# Altium footprint library ICs.PcbLib: 9 footprints
Each footprint in its own frame and in the unit in brackets; x right, y up, seen from the top. Pads: shape width x height; smd on the part's side, far side on the other; paste and mask are expansions set on the pad; w line width, h text height; cw(c..) or ccw(c..) is an arc to the next point about the centre after c.
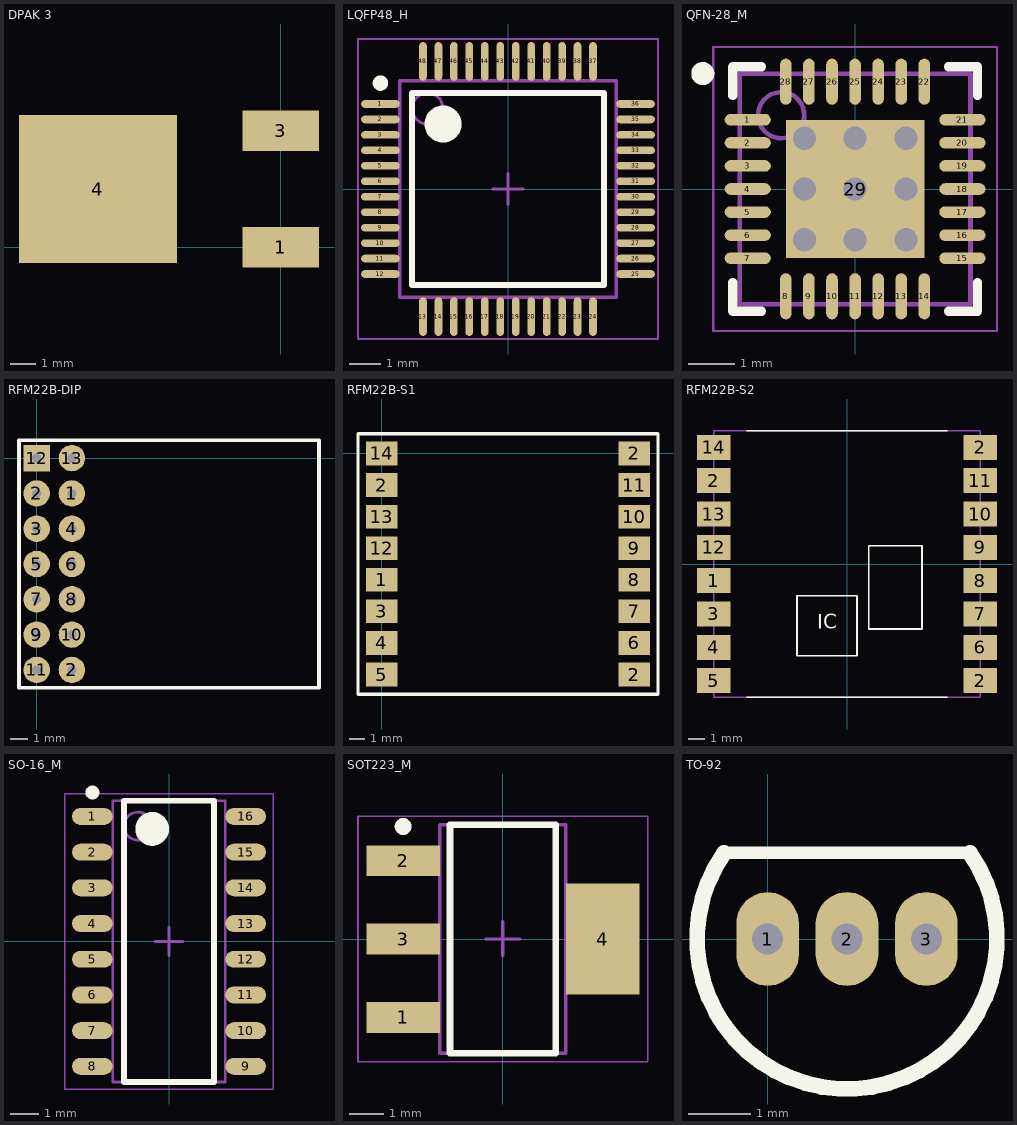
[diagram p0: the footprints below, top view; thin cyan lines are the x and y axes]

## DPAK 3 [mm]
height 2.38
pads (3):
  rect 3x1.6 smd: 1(0,0) 3(0,4.57)
  rect 6.2x5.8 smd: 4(-7.18,2.285)

## LQFP48_H [mm] "High dencity"
height 1.6
pads (48):
  oval 1.25x0.25 smd: 1(-4.125,2.75) 2(-4.125,2.25) 3(-4.125,1.75) 4(-4.125,1.25) 5(-4.125,0.75) 6(-4.125,0.25) 7(-4.125,-0.25) 8(-4.125,-0.75) 9(-4.125,-1.25) 10(-4.125,-1.75) 11(-4.125,-2.25) 12(-4.125,-2.75) 25(4.125,-2.75) 26(4.125,-2.25) 27(4.125,-1.75) 28(4.125,-1.25) 29(4.125,-0.75) 30(4.125,-0.25) 31(4.125,0.25) 32(4.125,0.75) 33(4.125,1.25) 34(4.125,1.75) 35(4.125,2.25) 36(4.125,2.75)
  oval 0.25x1.25 smd: 13(-2.75,-4.125) 14(-2.25,-4.125) 15(-1.75,-4.125) 16(-1.25,-4.125) 17(-0.75,-4.125) 18(-0.25,-4.125) 19(0.25,-4.125) 20(0.75,-4.125) 21(1.25,-4.125) 22(1.75,-4.125) 23(2.25,-4.125) 24(2.75,-4.125) 37(2.75,4.125) 38(2.25,4.125) 39(1.75,4.125) 40(1.25,4.125) 41(0.75,4.125) 42(0.25,4.125) 43(-0.25,4.125) 44(-0.75,4.125) 45(-1.25,4.125) 46(-1.75,4.125) 47(-2.25,4.125) 48(-2.75,4.125)
Top Overlay:
  circle w0.6: c-2.1,2.1 r0.3
  circle w0.25: c-4.125,3.425 r0.125
  lines w0.2: -3.1,-3.1 3.1,-3.1 3.1,3.1 -3.1,3.1 -3.1,-3.1
Mechanical 13:
  circle w0.1: c-2.6,2.6 r0.5
  lines w0.1: -3.5,-3.5 3.5,-3.5 3.5,3.5 -3.5,3.5 -3.5,-3.5
Mechanical 15:
  lines w0.05: -4.85,-4.85 4.85,-4.85 4.85,4.85 -4.85,4.85 -4.85,-4.85
  lines w0.1: -0.5,0 0.5,0 ; 0,-0.5 0,0.5
3D body: height 1.6, standoff 0.05, extent -3.5,-3.5 3.5,3.5

## QFN-28_M [mm] "QFN, 28-Leads, Body 5,00x5,00mm, Pitch 0,50mm, Thermal Pad 3,25x3,25mm, IPC Medium Density"
height 1
pads (29):
  oval 1x0.25 smd: 1(-2.325,1.5) 2(-2.325,1) 3(-2.325,0.5) 4(-2.325,0) 5(-2.325,-0.5) 6(-2.325,-1) 7(-2.325,-1.5) 15(2.325,-1.5) 16(2.325,-1) 17(2.325,-0.5) 18(2.325,0) 19(2.325,0.5) 20(2.325,1) 21(2.325,1.5)
  oval 0.25x1 smd: 8(-1.5,-2.325) 9(-1,-2.325) 10(-0.5,-2.325) 11(0,-2.325) 12(0.5,-2.325) 13(1,-2.325) 14(1.5,-2.325) 22(1.5,2.325) 23(1,2.325) 24(0.5,2.325) 25(0,2.325) 26(-0.5,2.325) 27(-1,2.325) 28(-1.5,2.325)
  rect 3x3 smd: 29(0,0)
via -1.1,1.1 diameter 0.7 hole 0.5
via 0,1.1 diameter 0.7 hole 0.5
via 1.1,1.1 diameter 0.7 hole 0.5
via -1.1,0 diameter 0.7 hole 0.5
via 0,0 diameter 0.7 hole 0.5
via 1.1,0 diameter 0.7 hole 0.5
via -1.1,-1.1 diameter 0.7 hole 0.5
via 0,-1.1 diameter 0.7 hole 0.5
via 1.1,-1.1 diameter 0.7 hole 0.5
Top Overlay:
  circle w0.25: c-3.3,2.5 r0.125
  lines w0.2: -2.65,-2.025 -2.65,-2.65 -2.025,-2.65 ; -2.65,2.025 -2.65,2.65 -2.025,2.65 ; 2.025,-2.65 2.65,-2.65 2.65,-2.025 ; 2.025,2.65 2.65,2.65 2.65,2.025
Mechanical 13:
  circle w0.1: c-1.6,1.6 r0.5
  lines w0.1: -2.5,-2.5 -2.5,2.5 2.5,2.5 2.5,-2.5 -2.5,-2.5
Mechanical 15:
  lines w0.05: -3.075,-3.075 -3.075,3.075 3.075,3.075 3.075,-3.075 -3.075,-3.075
  lines w0.1: -0.5,0 0.5,0 ; 0,-0.5 0,0.5
3D body: height 1, standoff 0, extent -2.5,-2.5 2.5,2.5

## RFM22B-DIP [mm]
pads (14):
  round 1.5 hole 0.5: 1(2,-2) 2(0,-2) 2(2,-12) 3(0,-4) 4(2,-4) 5(0,-6) 6(2,-6) 7(0,-8) 8(2,-8) 9(0,-10) 10(2,-10) 11(0,-12) 13(2,0)
  rect 1.5x1.5 hole 0.5: 12(0,0)
Top Overlay:
  lines w0.2: -1,-13 -1,1 16,1 16,-13 -1,-13

## RFM22B-S1 [mm]
pads (16):
  rect 2x1.5 smd: 1(0,-8) 2(0,-2) 2(16,-14) 2(16,0) 3(0,-10) 4(0,-12) 5(0,-14) 6(16,-12) 7(16,-10) 8(16,-8) 9(16,-6) 10(16,-4) 11(16,-2) 12(0,-6) 13(0,-4) 14(0,0)
Top Overlay:
  lines w0.2: -1.5,-15.25 17.5,-15.25 17.5,1.25 -1.5,1.25 -1.5,-15.25

## RFM22B-S2 [mm]
pads (16):
  rect 2x1.5 smd: 1(-8,-1) 2(-8,5) 2(8,-7) 2(8,7) 3(-8,-3) 4(-8,-5) 5(-8,-7) 6(8,-5) 7(8,-3) 8(8,-1) 9(8,1) 10(8,3) 11(8,5) 12(-8,1) 13(-8,3) 14(-8,7)
Top Overlay:
  lines w0.1: -6,-8 6,-8 ; -6,8 6,8 ; -3,-5.5 0.6,-5.5 0.6,-1.9 -3,-1.9 -3,-5.5 ; 1.3,-3.9 4.5,-3.9 4.5,1.1 1.3,1.1 1.3,-3.9
  text "IC" at -1.8,-4.2 h1.5
Mechanical 13:
  lines w0.1: -8,-8 8,-8 8,8 -8,8 -8,-8

## SO-16_M [mm] "SOP, 16-Leads, Body 9,90x3,90mm, Pitch 1,27mm, IPC Medium Density"
height 1.75
pads (16):
  oval 1.45x0.6 smd: 1(-2.725,4.445) 2(-2.725,3.175) 3(-2.725,1.905) 4(-2.725,0.635) 5(-2.725,-0.635) 6(-2.725,-1.905) 7(-2.725,-3.175) 8(-2.725,-4.445) 9(2.725,-4.445) 10(2.725,-3.175) 11(2.725,-1.905) 12(2.725,-0.635) 13(2.725,0.635) 14(2.725,1.905) 15(2.725,3.175) 16(2.725,4.445)
Top Overlay:
  circle w0.25: c-2.725,5.295 r0.125
  circle w0.6: c-0.6,4 r0.3
  lines w0.2: -1.6,-5 -1.6,5 1.6,5 1.6,-5 -1.6,-5
Mechanical 13:
  circle w0.1: c-1.1,4.1 r0.5
  lines w0.1: -2,-5 -2,5 2,5 2,-5 -2,-5
Mechanical 15:
  lines w0.05: -3.7,-5.25 -3.7,5.25 3.7,5.25 3.7,-5.25 -3.7,-5.25
  lines w0.1: -0.5,0 0.5,0 ; 0,-0.5 0,0.5
3D body: height 2, standoff 0, extent -3.082,-5.04 3.082,5.04

## SOT223_M [mm] "SOT223, 4-Leads, Body 6,50x7,00mm (avg), Pitch 2,30mm, IPC Medium Density"
height 1.8
pads (4):
  rect 2.15x0.9 smd: 1(-2.925,-2.3) 2(-2.925,2.3) 3(-2.925,0)
  rect 2.15x3.25 smd: 4(2.925,0)
Top Overlay:
  circle w0.25: c-2.925,3.3 r0.125
  lines w0.2: -1.55,-3.35 1.55,-3.35 1.55,3.35 -1.55,3.35 -1.55,-3.35
Mechanical 13:
  lines w0.1: -1.85,-3.35 1.85,-3.35 1.85,3.35 -1.85,3.35 -1.85,-3.35
Mechanical 15:
  lines w0.05: -4.25,-3.6 4.25,-3.6 4.25,3.6 -4.25,3.6 -4.25,-3.6
  lines w0.1: -0.5,0 0.5,0 ; 0,-0.5 0,0.5
3D body: height 1.8, standoff 0.02, extent -1.85,-3.35 1.85,3.35

## TO-92 [mm]
pads (3):
  oval 1x1.5 hole 0.5: 1(0,0) 2(1.27,0) 3(2.54,0)
Top Overlay:
  lines w0.2: -0.696,1.377 3.236,1.377
  lines w0.254: -0.696,1.377 ccw(c1.27,0) 3.236,1.377